# Altium footprint library Crazy_PCB.PcbLib: 155 footprints (part 6 of 10)
Each footprint in its own frame and in the unit in brackets; x right, y up, seen from the top. Pads: shape width x height; smd on the part's side, far side on the other; paste and mask are expansions set on the pad; w line width, h text height; cw(c..) or ccw(c..) is an arc to the next point about the centre after c.
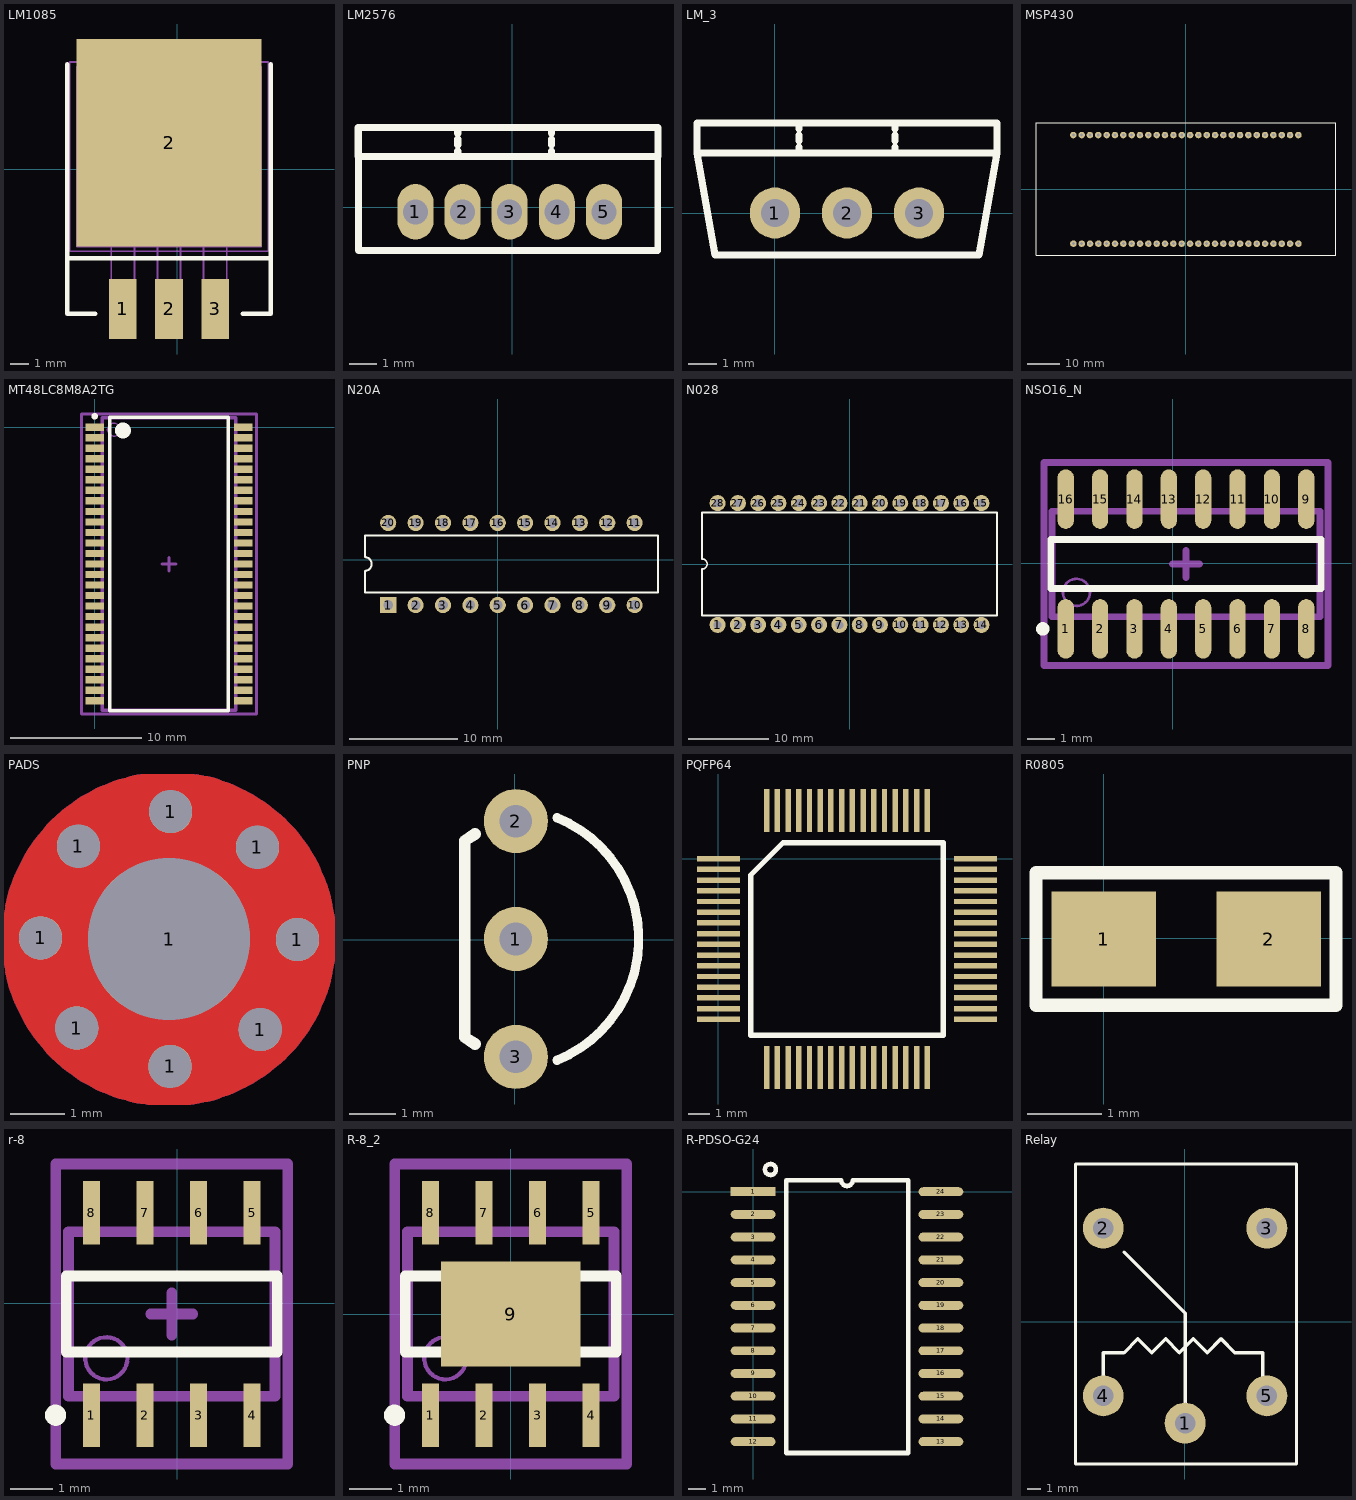
[diagram p5: the footprints below, top view; thin cyan lines are the x and y axes]

## LM1085 [mil]
pads (4):
  rect 60x130 smd: 1(-117.72,-303.23) 2(-17.72,-303.23) 3(82.28,-303.23)
  rect 400x450 smd: 2(-17.72,56.77)
Top Overlay:
  lines w9.84: -237.72,226.77 -237.72,-193.23 ; -177.72,-313.23 -237.72,-313.23 -237.72,-193.23 ; 142.28,-313.23 202.28,-313.23 202.28,-193.23 ; 202.28,226.77 202.28,-193.23 ; -237.72,-193.23 202.28,-193.23
Mechanical 2:
  lines w4: -217.72,161.77 182.28,161.77 ; -142.72,-168.23 -142.72,-308.23 -92.72,-308.23 -92.72,-168.23 ; -117.72,161.77 -117.72,-88.23 82.28,-88.23 82.28,161.77 ; -42.72,-168.23 -42.72,-308.23 7.28,-308.23 7.28,-168.23 ; 57.28,-168.23 57.28,-308.23 107.28,-308.23 107.28,-168.23 ; -217.72,-168.23 182.28,-168.23 182.28,221.77 -217.72,221.77 -217.72,-168.23
Mechanical 3:
  rectangle: -137.72,-343.23 -97.72,-258.23
  rectangle: 62.28,-343.23 102.28,-258.23
  rectangle: -37.72,-343.23 2.28,-258.23
  lines w4: -232.72,-178.23 197.28,-178.23 197.28,231.77 -232.72,231.77 -232.72,-178.23

## LM2576 [mm]
pads (5):
  oval 1.3x2 hole 0.9: 1(-3.49,-0.16) 2(-1.79,-0.16) 3(-0.09,-0.16) 4(1.61,-0.16) 5(3.31,-0.16)
Top Overlay:
  lines w0.25: -5.55,2.88 -5.55,-1.56 5.25,-1.56 5.25,1.9
  lines w0.254: -1.963,1.827 -1.963,2.038 ; -1.963,2.25 -1.963,2.462 ; -1.963,2.673 -1.963,2.885 ; 1.423,1.827 1.423,2.038 ; 1.423,2.25 1.423,2.462 ; 1.423,2.673 1.423,2.885 ; -5.562,1.827 -5.562,2.885 5.26,2.885 5.26,1.827 -5.562,1.827

## LM_3 [mm]
pads (3):
  oval 1.778x1.8 hole 1: 1(0,0) 2(2.54,0) 3(5.08,0)
Top Overlay:
  lines w0.254: 0.847,2.117 0.847,2.328 ; 0.847,2.54 0.847,2.752 ; 0.847,2.963 0.847,3.175 ; 4.233,2.117 4.233,2.328 ; 4.233,2.54 4.233,2.752 ; 4.233,2.963 4.233,3.175 ; -2.752,2.117 -2.752,3.175 7.832,3.175 7.832,2.117 ; -2.752,2.117 -2.117,-1.482 7.197,-1.482 7.832,2.117 ; -2.752,2.117 7.832,2.117

## MSP430 [mm]
height 0.6
pads (56):
  round 2 hole 0.9: 0(-34.295,-16.561) 1(-31.755,-16.561) 2(-29.215,-16.561) 3(-26.675,-16.561) 4(-24.141,-16.561) 5(-21.601,-16.561) 6(-19.061,-16.561) 7(-16.521,-16.561) 8(-13.981,-16.561) 9(-11.441,-16.561) 10(-8.901,-16.561) 11(-6.361,-16.561) 12(-3.819,-16.561) 13(-1.279,-16.561) 14(1.261,-16.561) 15(3.801,-16.561) 16(6.341,-16.561) 17(8.881,-16.561) 18(11.421,-16.561) 19(13.961,-16.561) 20(16.526,-16.561) 21(19.066,-16.561) 22(21.606,-16.561) 23(24.146,-16.561) 24(26.686,-16.561) 25(29.226,-16.561) 26(31.766,-16.561) 27(34.306,-16.561) 28(34.294,16.561) 29(31.754,16.561) 30(29.214,16.561) 31(26.674,16.561) 32(24.134,16.561) 33(21.594,16.561) 34(19.054,16.561) 35(16.514,16.561) 36(13.983,16.561) 37(11.443,16.561) 38(8.903,16.561) 39(6.363,16.561) 40(3.823,16.561) 41(1.283,16.561) 42(-1.257,16.561) 43(-3.797,16.561) 44(-6.373,16.561) 45(-8.913,16.561) 46(-11.453,16.561) 47(-13.993,16.561) 48(-16.533,16.561) 49(-19.073,16.561) 50(-21.613,16.561) 51(-24.153,16.561) 52(-26.711,16.561) 53(-29.251,16.561) 54(-31.766,16.561) 55(-34.306,16.561)
Top Overlay:
  lines w0.25: -45.69,-20.082 -45.69,20.305 45.76,20.305 45.76,-20.066 -45.69,-20.082

## MT48LC8M8A2TG [mm]
pads (54):
  rect 1.4x0.55 smd: 1(0,0) 2(0,-0.8) 3(0,-1.6) 4(0,-2.4) 5(0,-3.2) 6(0,-4) 7(0,-4.8) 8(0,-5.6) 9(0,-6.4) 10(0,-7.2) 11(0,-8) 12(0,-8.8) 13(0,-9.6) 14(0,-10.4) 15(0,-11.2) 16(0,-12) 17(0,-12.8) 18(0,-13.6) 19(0,-14.4) 20(0,-15.2) 21(0,-16) 22(0,-16.8) 23(0,-17.6) 24(0,-18.4) 25(0,-19.2) 26(0,-20) 27(0,-20.8) 28(11.3,-20.8) 29(11.3,-20) 30(11.3,-19.2) 31(11.3,-18.4) 32(11.3,-17.6) 33(11.3,-16.8) 34(11.3,-16) 35(11.3,-15.2) 36(11.3,-14.4) 37(11.3,-13.6) 38(11.3,-12.8) 39(11.3,-12) 40(11.3,-11.2) 41(11.3,-10.4) 42(11.3,-9.6) 43(11.3,-8.8) 44(11.3,-8) 45(11.3,-7.2) 46(11.3,-6.4) 47(11.3,-5.6) 48(11.3,-4.8) 49(11.3,-4) 50(11.3,-3.2) 51(11.3,-2.4) 52(11.3,-1.6) 53(11.3,-0.8) 54(11.3,0)
Top Overlay:
  circle w0.6: c2.15,-0.25 r0.3
  circle w0.25: c0,0.825 r0.125
  lines w0.254: 1.15,-21.55 10.15,-21.55 10.15,0.75 1.15,0.75 1.15,-21.55
Mechanical 13:
  circle w0.1: c1.47,-0.19 r0.5
  lines w0.254: 0.57,-21.51 10.73,-21.51 10.73,0.71 0.57,0.71 0.57,-21.51
Mechanical 15:
  lines w0.254: 5.15,-10.4 6.15,-10.4 ; 5.65,-10.9 5.65,-9.9 ; -1,-21.8 12.3,-21.8 12.3,1 -1,1 -1,-21.8
3D body: height 1.2, standoff 0, extent 0.57,-21.51 10.73,0.71

## N20A [mm]
pads (20):
  rect 1.5x1.5 hole 0.9: 1(-10.178,-4.22)
  round 1.5 hole 0.9: 2(-7.638,-4.22) 3(-5.098,-4.22) 4(-2.558,-4.22) 5(-0.018,-4.22) 6(2.522,-4.22) 7(5.062,-4.22) 8(7.602,-4.22) 9(10.142,-4.22) 10(12.682,-4.22) 11(12.682,3.4) 12(10.142,3.4) 13(7.602,3.4) 14(5.062,3.4) 15(2.522,3.4) 16(-0.018,3.4) 17(-2.558,3.4) 18(-5.098,3.4) 19(-7.638,3.4) 20(-10.178,3.4)
Top Overlay:
  lines w0.2: -12.348,-3.06 -12.348,-1.045 ccw(c-12.348,-0.41) -12.348,0.225 -12.348,2.24 14.852,2.24 14.852,-3.06 -12.348,-3.06

## N028 [mm] "DIP; 28 Leads; Row Spacing 15.24 mm; Pitch 2.54 mm"
height 5.08
pads (28):
  round 2 hole 1: 1(-16.51,-7.62) 2(-13.97,-7.62) 3(-11.43,-7.62) 4(-8.89,-7.62) 5(-6.35,-7.62) 6(-3.81,-7.62) 7(-1.27,-7.62) 8(1.27,-7.62) 9(3.81,-7.62) 10(6.35,-7.62) 11(8.89,-7.62) 12(11.43,-7.62) 13(13.97,-7.62) 14(16.51,-7.62) 15(16.51,7.62) 16(13.97,7.62) 17(11.43,7.62) 18(8.89,7.62) 19(6.35,7.62) 20(3.81,7.62) 21(1.27,7.62) 22(-1.27,7.62) 23(-3.81,7.62) 24(-6.35,7.62) 25(-8.89,7.62) 26(-11.43,7.62) 27(-13.97,7.62) 28(-16.51,7.62)
Top Overlay:
  lines w0.2: -18.45,-0.635 ccw(c-18.45,0) -18.45,0.635
  lines w0.254: -18.45,-0.635 -18.45,-6.45 18.45,-6.45 18.45,6.45 -18.45,6.45 -18.45,0.635

## NSO16_N [mm]
pads (16):
  oval 0.6x2.2 smd: 1(-3.957,-2.43) 2(-2.687,-2.43) 3(-1.417,-2.43) 4(-0.147,-2.43) 5(1.123,-2.43) 6(2.393,-2.43) 7(3.663,-2.43) 8(4.933,-2.43) 9(4.933,2.37) 10(3.663,2.37) 11(2.393,2.37) 12(1.123,2.37) 13(-0.147,2.37) 14(-1.417,2.37) 15(-2.687,2.37) 16(-3.957,2.37)
Top Overlay:
  circle w0.25: c-4.807,-2.43 r0.125
  lines w0.254: -4.512,-0.93 -4.512,0.87 5.488,0.87 5.488,-0.93 -4.512,-0.93
Mechanical 13:
  circle w0.1: c-3.562,-1.08 r0.5
  lines w0.254: -4.462,-1.98 -4.462,1.92 5.438,1.92 5.438,-1.98 -4.462,-1.98
Mechanical 15:
  lines w0.254: -0.012,-0.03 0.988,-0.03 ; 0.488,-0.53 0.488,0.47 ; -4.762,-3.78 -4.762,3.72 5.738,3.72 5.738,-3.78 -4.762,-3.78
3D body: height 1.75, standoff 0, extent -4.462,-1.98 5.438,1.92

## PADS [mm]
pads (9):
  round 0.8 hole 0.8: 1(-2.38,0.02) 1(-1.71,-1.65) 1(-1.68,1.72) 1(0.02,-2.36) 1(0.03,2.36) 1(1.64,1.7) 1(1.69,-1.68) 1(2.38,-0.01)
  round 3 hole 3: 1(0,0)
Top Layer:
  circle w2: c0,0 r2.1
Bottom Layer:
  circle w2: c0,0 r2.1
Top Solder:
  circle w2: c0,0 r2.1
Bottom Solder:
  circle w2: c0,0 r2.1

## PNP [mm]
pads (3):
  round 1.38 hole 0.7: 1(0.025,0.013) 2(0.025,2.553) 3(0.025,-2.527)
Top Overlay:
  lines w0.2: 0.911,-2.597 ccw(c-0.144,0.013) 0.911,2.623
  lines w0.254: -0.856,-2.25 -1.075,-2.104 -1.075,2.129 -0.856,2.275

## PQFP64 [mm]
pads (64):
  rect 2x0.254 smd: 1(0,0) 2(0,-0.5) 3(0,-1) 4(0,-1.5) 5(0,-2) 6(0,-2.5) 7(0,-3) 8(0,-3.5) 9(0,-4) 10(0,-4.5) 11(0,-5) 12(0,-5.5) 13(0,-6) 14(0,-6.5) 15(0,-7) 16(0,-7.5) 33(12,-7.5) 34(12,-7) 35(12,-6.5) 36(12,-6) 37(12,-5.5) 38(12,-5) 39(12,-4.5) 40(12,-4) 41(12,-3.5) 42(12,-3) 43(12,-2.5) 44(12,-2) 45(12,-1.5) 46(12,-1) 47(12,-0.5) 48(12,0)
  rect 0.254x2 smd: 17(2.25,-9.75) 18(2.75,-9.75) 19(3.25,-9.75) 20(3.75,-9.75) 21(4.25,-9.75) 22(4.75,-9.75) 23(5.25,-9.75) 24(5.75,-9.75) 25(6.25,-9.75) 26(6.75,-9.75) 27(7.25,-9.75) 28(7.75,-9.75) 29(8.25,-9.75) 30(8.75,-9.75) 31(9.25,-9.75) 32(9.75,-9.75) 49(9.75,2.25) 50(9.25,2.25) 51(8.75,2.25) 52(8.25,2.25) 53(7.75,2.25) 54(7.25,2.25) 55(6.75,2.25) 56(6.25,2.25) 57(5.75,2.25) 58(5.25,2.25) 59(4.75,2.25) 60(4.25,2.25) 61(3.75,2.25) 62(3.25,2.25) 63(2.75,2.25) 64(2.25,2.25)
Top Overlay:
  lines w0.25: 1.508,-8.242 10.492,-8.242 10.492,0.742 3.016,0.742 1.508,-0.766 1.508,-8.242

## R0805 [mm]
height 6.35
pads (2):
  rect 1.4x1.27 smd: 1(-0.001,-0.007) 2(2.209,-0.007)
Top Overlay:
  lines w0.178: -0.91,0.872 -0.91,-0.896 3.11,-0.896 3.11,0.882 3.01,0.882 ; -0.91,0.882 3.009,0.882

## r-8 [mm]
height 1.75
pads (8):
  rect 0.4x1.5 smd: 1(-2.032,-2.654) 2(-0.762,-2.654) 3(0.508,-2.654) 4(1.778,-2.654) 5(1.778,2.146) 6(0.508,2.146) 7(-0.762,2.146) 8(-2.032,2.146)
Top Overlay:
  circle w0.25: c-2.882,-2.654 r0.125
  lines w0.254: -2.627,-1.154 2.373,-1.154 2.373,0.646 -2.627,0.646 -2.627,-1.154
Mechanical 13:
  circle w0.1: c-1.677,-1.304 r0.5
  lines w0.254: -2.577,-2.204 2.323,-2.204 2.323,1.696 -2.577,1.696 -2.577,-2.204
Mechanical 15:
  lines w0.254: -0.627,-0.254 0.373,-0.254 ; -0.127,-0.754 -0.127,0.246 ; -2.877,-3.81 2.623,-3.81 2.623,3.302 -2.877,3.302 -2.877,-3.81
3D body: height 1.75, standoff 0, extent -2.577,-2.204 2.323,1.696

## R-8_2 [mm]
pads (9):
  rect 0.4x1.5 smd: 1(-1.905,-2.4) 2(-0.635,-2.4) 3(0.635,-2.4) 4(1.905,-2.4) 5(1.905,2.4) 6(0.635,2.4) 7(-0.635,2.4) 8(-1.905,2.4)
  rect 3.3x2.5 smd: 9(0,0)
Top Overlay:
  circle w0.25: c-2.755,-2.4 r0.125
  lines w0.254: -2.5,-0.9 2.5,-0.9 2.5,0.9 -2.5,0.9 -2.5,-0.9
Mechanical 13:
  circle w0.1: c-1.55,-1.05 r0.5
  lines w0.254: -2.45,-1.95 2.45,-1.95 2.45,1.95 -2.45,1.95 -2.45,-1.95
Mechanical 15:
  lines w0.254: -0.5,0 0.5,0 ; 0,-0.5 0,0.5 ; -2.75,-3.556 2.75,-3.556 2.75,3.556 -2.75,3.556 -2.75,-3.556
3D body: height 1.75, standoff 0, extent -2.45,-1.95 2.45,1.95

## R-PDSO-G24 [mm]
height 3
pads (24):
  rect 2.5x0.5 smd: 1(0,0)
  oval 2.5x0.5 smd: 2(0,-1.27) 3(0,-2.54) 4(0,-3.81) 5(0,-5.08) 6(0,-6.35) 7(0,-7.62) 8(0,-8.89) 9(0,-10.16) 10(0,-11.43) 11(0,-12.7) 12(0,-13.97) 13(10.5,-13.97) 14(10.5,-12.7) 15(10.5,-11.43) 16(10.5,-10.16) 17(10.5,-8.89) 18(10.5,-7.62) 19(10.5,-6.35) 20(10.5,-5.08) 21(10.5,-3.81) 22(10.5,-2.54) 23(10.5,-1.27) 24(10.5,0)
Top Overlay:
  circle w0.254: c0.972,1.24 r0.308
  lines w0.254: 1.85,-14.605 1.85,0.635 4.932,0.635 ccw(c5.25,0.635) 5.567,0.635 8.67,0.635 8.67,-14.605 1.85,-14.605

## Relay [mm]
pads (5):
  round 3 hole 1.5: 1(0.031,-7.442) 2(-5.969,6.858) 3(6.031,6.858) 4(-5.969,-5.442) 5(6.031,-5.442)
Top Overlay:
  lines w0.25: -5.969,-5.442 -5.969,-2.286 -4.445,-2.286 -3.429,-1.27 -2.413,-2.286 -1.397,-1.27 -0.381,-2.286 0.635,-1.27 1.651,-2.286 2.667,-1.27 3.683,-2.286 5.715,-2.286 5.715,-5.25 ; -4.445,5.08 0.031,0.604 0.031,-7.442 ; -8.001,-10.442 8.199,-10.442 8.199,11.558 -8.001,11.558 -8.001,-10.442